# Altium integrated library ali_drv_parts.IntLib: 21 symbols
Pins are listed as number, name and electrical type; pins without a type are passive.

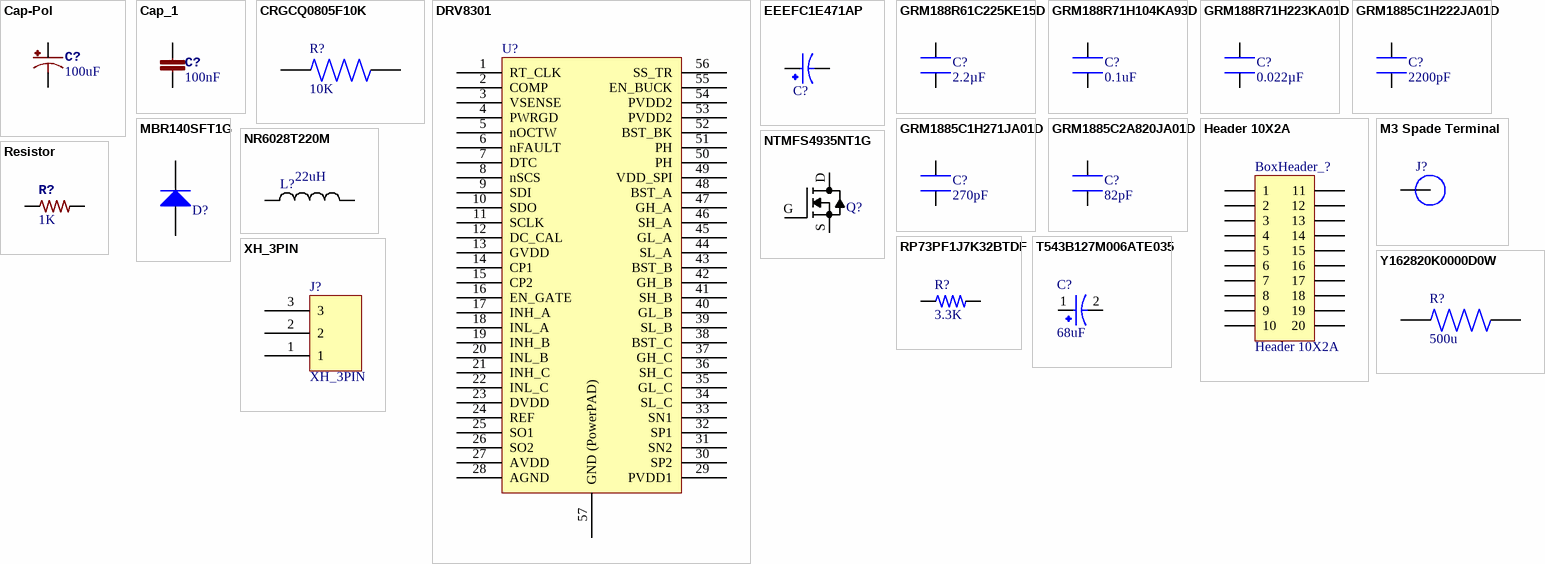
[diagram p0: symbols Cap-Pol to Y162820K0000D0W]

## Cap-Pol
designator C?  value 100uF  (hidden comment: Cap-Pol)
footprint _CPOL-RADIAL-2MM-4MM
footprint _CPOL-RADIAL-2.5MM-5MM
footprint _CPOL-RADIAL-2.5MM-6.5MM
footprint _CPOL-RADIAL-5MM-10MM
footprint _CPOL-RADIAL-5MM-13MM
footprint _CPOL-RADIAL-8MM-17MM
footprint _CPOL-RADIAL-7.5MM-15MM
footprint _CPOL_SMD-4.5MM
footprint _CPOL_SMD-6.8MM
footprint _CPOL_SMD-8.3MM
footprint _EIA3216
footprint _EIA3528
footprint _EIA6032
footprint _EIA7343
pins: +, -

## Cap_1
designator C?, comment value 100nF  (hidden comment: Cap)
footprint _0402
footprint _0603
footprint _0805
footprint _1206
footprint _RAD-0.1
footprint _RAD-0.2
footprint _RAD-0.3
footprint _RAD-0.4
footprint _RAD-0.5
footprint _RAD-0.6
footprint _RAD-0.7 (22.60mm)
pins: 1, 2

## CRGCQ0805F10K
designator R?, comment Comment_1: 10K  (hidden comment: 3-2176341-7)
Fixed Resistor CRGCQ 0805 10K 1%; MP: CRGCQ0805F10K; MF: TE Connectivity; DigiKey-Purchase-URL: https://snapeda.com/shop?store=DigiKey&id=3188209; Arrow_Electronics-Purchase-URL: https://snapeda.com/shop?store=Arrow+Electronics&id=3188209; Availability: Unavailable; SnapEDA_Link: https://www.snapeda.com/parts/CRGCQ0805F10K/TE%20Connectivity/view-part/3188209/?ref=snap; Package: 2012 TE Connectivity; Price: None; Value: *
footprint RESC2012X65N
pins: 1, 2

## DRV8301
designator U?
MOTOR DRIVER, 3PH, 56HTSSOP
footprint TSSOP50P810X120_HS-57N (TSSOP, 56-Leads, Body 14.00x6.10mm, Pitch 0.50mm, Thermal Pad 6.35x3.61mm, IPC Medium Density)
pins: 1 RT_CLK, 2 COMP, 3 VSENSE, 4 PWRGD, 5 nOCTW, 6 nFAULT, 7 DTC, 8 nSCS, 9 SDI, 10 SDO, 11 SCLK, 12 DC_CAL, 13 GVDD, 14 CP1, 15 CP2, 16 EN_GATE, 17 INH_A, 18 INL_A, 19 INH_B, 20 INL_B, 21 INH_C, 22 INL_C, 23 DVDD, 24 REF, 25 SO1, 26 SO2, 27 AVDD, 28 AGND, 29 PVDD1, 30 SP2, 31 SN2, 32 SP1, 33 SN1, 34 SL_C, 35 GL_C, 36 SH_C, 37 GH_C, 38 BST_C, 39 SL_B, 40 GL_B, 41 SH_B, 42 GH_B, 43 BST_B, 44 SL_A, 45 GL_A, 46 SH_A, 47 GH_A, 48 BST_A, 49 VDD_SPI, 50 PH, 51 PH, 52 BST_BK, 53 PVDD2, 54 PVDD2, 55 EN_BUCK, 56 SS_TR, 57 GND (PowerPAD)

## EEEFC1E471AP
designator C?  (value not drawn)
470ÂµF 25V Aluminum Electrolytic Capacitors Radial, Can - SMD 1000 Hrs @ 105Â°C; MF: Panasonic; MP: EEE-FC1E471AP; Availability: In Stock; Check_prices: https://www.snapeda.com/parts/EEE-FC1E471AP/Panasonic/view-part/2305395/?ref=eda; Package: RADIAL-2 Panasonic; Price: None; SnapEDA_Link: https://www.snapeda.com/parts/EEE-FC1E471AP/Panasonic/view-part/2305395/?ref=snap; Value: *
footprint CAP_EEEFC1E471AP
pins: 1, 2

## GRM188R61C225KE15D
designator C?, comment 2.2µF
CAP CER 2.2UF 16V X5R 0603; Manufacturer: Murata Electronics North America; Manufacturer Part Number: GRM188R61C225KE15D; Tolerance: ±10%; Supplier 1: Digi-Key; Supplier Part Number 1: 490-3296-1-ND; RoHS: RoHS Compliant; Category: Capacitors; Stock 1: 1255740; Pricing 1: 1=0.12, 10=0.08, 50=0.046, 100=0.038, 250=0.032, 500=0.0268, 1000=0.022 (USD); Packaging: Cut Tape (CT); Capacitance: 2.2µF; Voltage - Rated: 16V; Temperature Coefficient: X5R; Mounting Type: Surface Mount, MLCC; Operating Temperature: -55°C ~ 85°C; Applications: General Purpose; Ratings: -; Package / Case: 0603 (1608 Metric); Size / Dimension: 0.063" L x 0.031" W (1.60mm x 0.80mm); Height - Seated (Max): -; Thickness (Max): 0.035" (0.90mm); Lead Spacing: -; Features: -; Lead Style: -; ComponentLink1URL: http://www.murata.com/~/media/webrenewal/support/library/catalog/products/capacitor/mlcc/c02e.pdf; ComponentLink1Description: http://www.murata.com/~/media/webrenewal/support/library/catalog/products/capacitor/mlcc/c02e.pdf
footprint CAPC1608X09L (Chip Capacitor, 2-Leads, Body 1.60x0.80mm, IPC High Density)
pins: 1, 2

## GRM188R71H104KA93D
designator C?, comment 0.1uF
CAP CER 0.1UF 50V X7R 0603; Manufacturer: Murata Electronics North America; Manufacturer Part Number: GRM188R71H104KA93D; Tolerance: ±10%; Supplier 1: Digi-Key; Supplier Part Number 1: 490-1519-2-ND; RoHS: RoHS Compliant; Category: Capacitors; Pricing 1: 4000=0.01822, 8000=0.01663, 12000=0.01584 (USD); Packaging: Tape & Reel (TR); Capacitance: 0.1uF; Voltage - Rated: 50V; Temperature Coefficient: X7R; Mounting Type: Surface Mount, MLCC; Operating Temperature: -55°C ~ 125°C; Applications: General Purpose; Ratings: -; Package / Case: 0603 (1608 Metric); Size / Dimension: 0.063" L x 0.032" W (1.60mm x 0.80mm); Height - Seated (Max): -; Thickness (Max): 0.035" (0.90mm); Lead Spacing: -; Features: -; Lead Style: -; ComponentLink1URL: http://www.murata.com/~/media/webrenewal/support/library/catalog/products/capacitor/mlcc/c02e.ashx?la=en-us; ComponentLink1Description: http://www.murata.com/~/media/webrenewal/support/library/catalog/products/capacitor/mlcc/c02e.ashx?la=en-us; Stock: 19812000; Part Status: Active; Supplier 2: Digi-Key; Supplier Part Number 2: 490-1519-1-ND; Pricing 2: 1=0.12, 10=0.084, 100=0.0396, 500=0.02778, 1000=0.023 (USD)
footprint CAPC1608X09L (Chip Capacitor, 2-Leads, Body 1.60x0.80mm, IPC High Density)
pins: 1, 2

## GRM188R71H223KA01D
designator C?, comment 0.022µF
CAP CER 0.022UF 50V X7R 0603; Manufacturer: Murata Electronics North America; Manufacturer Part Number: GRM188R71H223KA01D; Tolerance: ±10%; Supplier 1: Digi-Key; Supplier Part Number 1: 490-1517-2-ND; RoHS: RoHS Compliant; Category: Capacitors; Pricing 1: 4000=0.01518, 8000=0.01386, 12000=0.0132 (USD); Packaging: Tape & Reel (TR); Capacitance: 0.022µF; Voltage - Rated: 50V; Temperature Coefficient: X7R; Mounting Type: Surface Mount, MLCC; Operating Temperature: -55°C ~ 125°C; Applications: General Purpose; Ratings: -; Package / Case: 0603 (1608 Metric); Size / Dimension: 0.063" L x 0.032" W (1.60mm x 0.80mm); Height - Seated (Max): -; Thickness (Max): 0.035" (0.90mm); Lead Spacing: -; Features: -; Lead Style: -; ComponentLink1URL: http://search.murata.co.jp/Ceramy/image/img/A01X/G101/ENG/GRM188R71H223KA01-01.pdf; ComponentLink1Description: http://search.murata.co.jp/Ceramy/image/img/A01X/G101/ENG/GRM188R71H223KA01-01.pdf; Stock: 608000; Part Status: Active; Supplier 2: Digi-Key; Supplier Part Number 2: 490-1517-1-ND; Pricing 2: 1=0.11, 10=0.083, 100=0.0372, 500=0.02656, 1000=0.02087 (USD)
footprint CAPC1608X09L (Chip Capacitor, 2-Leads, Body 1.60x0.80mm, IPC High Density)
pins: 1, 2

## GRM1885C1H222JA01D
designator C?, comment 2200pF
CAP CER 2200PF 50V NP0 0603; Manufacturer: Murata Electronics North America; Tolerance: ±5%; Temperature Coefficient: C0G, NP0; Supplier 1: Digi-Key; Supplier Part Number 1: 490-1459-1-ND; RoHS: RoHS Compliant; Category: Capacitors; Stock 1: 850589; Pricing 1: 1=0.11, 10=0.08, 25=0.058, 50=0.0434, 100=0.0355, 250=0.02972, 500=0.02536, 1000=0.01992 (USD); Packaging: Cut Tape (CT); Capacitance: 2200pF; Voltage - Rated: 50V; Mounting Type: Surface Mount, MLCC; Operating Temperature: -55°C ~ 125°C; Applications: General Purpose; Ratings: -; Package / Case: 0603 (1608 Metric); Size / Dimension: 0.063" L x 0.031" W (1.60mm x 0.80mm); Height - Seated (Max): -; Thickness (Max): 0.035" (0.90mm); Lead Spacing: -; Features: -; Lead Style: -; ComponentLink1URL: http://www.murata.com/~/media/webrenewal/support/library/catalog/products/capacitor/mlcc/c02e.ashx; ComponentLink1Description: http://www.murata.com/~/media/webrenewal/support/library/catalog/products/capacitor/mlcc/c02e.ashx; Part Status: Active
footprint CAPC1608X09L (Chip Capacitor, 2-Leads, Body 1.60x0.80mm, IPC High Density)
pins: 1, 2

## GRM1885C1H271JA01D
designator C?, comment 270pF
CAP CER 270PF 50V NP0 0603; Manufacturer: Murata Electronics North America; Manufacturer Part Number: GRM1885C1H271JA01D; Tolerance: ±5%; Temperature Coefficient: C0G, NP0; Supplier 1: Digi-Key; Supplier Part Number 1: 490-1437-1-ND; RoHS: RoHS Compliant; Category: Capacitors; Stock 1: 46048; Pricing 1: 1=0.1, 10=0.048, 50=0.026, 100=0.022, 250=0.018, 500=0.0154, 1000=0.012 (USD); Packaging: Cut Tape (CT); Capacitance: 270pF; Voltage - Rated: 50V; Mounting Type: Surface Mount, MLCC; Operating Temperature: -55°C ~ 125°C; Applications: General Purpose; Ratings: -; Package / Case: 0603 (1608 Metric); Size / Dimension: 0.063" L x 0.031" W (1.60mm x 0.80mm); Height - Seated (Max): -; Thickness (Max): 0.035" (0.90mm); Lead Spacing: -; Features: -; Lead Style: -; ComponentLink1URL: http://www.murata.com/~/media/webrenewal/support/library/catalog/products/capacitor/mlcc/c02e.pdf; ComponentLink1Description: http://www.murata.com/~/media/webrenewal/support/library/catalog/products/capacitor/mlcc/c02e.pdf
footprint CAPC1608X09L (Chip Capacitor, 2-Leads, Body 1.60x0.80mm, IPC High Density)
pins: 1, 2

## GRM1885C2A820JA01D
designator C?, comment 82pF
CAP CER 82PF 100V NP0 0603; Manufacturer: Murata Electronics North America; Manufacturer Part Number: GRM1885C2A820JA01D; Tolerance: ±5%; Temperature Coefficient: C0G, NP0; Supplier 1: Digi-Key; Supplier Part Number 1: 490-1349-1-ND; RoHS: RoHS Compliant; Category: Capacitors; Stock 1: 58970; Pricing 1: 1=0.1, 10=0.052, 50=0.028, 100=0.0237, 250=0.01936, 500=0.01656, 1000=0.0129 (USD); Packaging: Cut Tape (CT); Capacitance: 82pF; Voltage - Rated: 100V; Mounting Type: Surface Mount, MLCC; Operating Temperature: -55°C ~ 125°C; Applications: General Purpose; Ratings: -; Package / Case: 0603 (1608 Metric); Size / Dimension: 0.063" L x 0.031" W (1.60mm x 0.80mm); Height - Seated (Max): -; Thickness (Max): 0.035" (0.90mm); Lead Spacing: -; Features: -; Lead Style: -; ComponentLink1URL: http://www.murata.com/~/media/webrenewal/support/library/catalog/products/capacitor/mlcc/c02e.pdf; ComponentLink1Description: http://www.murata.com/~/media/webrenewal/support/library/catalog/products/capacitor/mlcc/c02e.pdf
footprint CAPC1608X09L (Chip Capacitor, 2-Leads, Body 1.60x0.80mm, IPC High Density)
pins: 1, 2

## Header 10X2A
designator BoxHeader_?
Header, 10-Pin, Dual row; LatestRevisionDate: 17-Jul-2002; LatestRevisionNote: Re-released for DXP Platform.; Publisher: Altium Limited
footprint PCBComponent_1
pins: 1, 2, 3, 4, 5, 6, 7, 8, 9, 10, 11, 12, 13, 14, 15, 16, 17, 18, 19, 20

## M3 Spade Terminal
designator J?
M3 Spade Terminal
footprint M3 Spade Hole
pins: 1

## MBR140SFT1G
designator D?
Rectifier Diode, Single, 40 V, 1 A, SOD-123FL, 2, 550 mV
footprint Bourns DO214AC SMA (Molded Diode, 2-Leads, Body 4.30x2.60mm, IPC Medium Density)
pins: A, K

## NR6028T220M
designator L?, comment 22uH
INDUCTOR 22UH 1.4A 175.5 MOHM; Value: 22uH
footprint INDC6060X28N (Chip Inductor, 2-Leads, Body 6.00x6.00mm, IPC Medium Density)
pins: 1, 2

## NTMFS4935NT1G
designator Q?, comment FILL_FOOTPRINT  (value not drawn)
MOSFET N-CH 30V 13A SO8FL; Manufacturer: ON Semiconductor; Manufacturer Part Number: NTMFS4935NT1G; FET Type: N-Channel; Current - Continuous Drain (Id) @ 25°C: 13A (Ta), 93A (Tc); Drive Voltage (Max Rds On,  Min Rds On): 4.5V, 10V; Vgs(th) (Max) @ Id: 2.2V @ 250µA; Gate Charge (Qg) (Max) @ Vgs: 49.4nC @ 10V; Input Capacitance (Ciss) (Max) @ Vds: 4850pF @ 15V; Vgs (Max): ±20V; Power Dissipation (Max): 930mW (Ta), 48W (Tc); Rds On (Max) @ Id, Vgs: 3.2 mOhm @ 30A, 10V; Supplier 1: Digi-Key; Supplier Part Number 1: NTMFS4935NT1GOSCT-ND; RoHS: RoHS Compliant; Category: Discrete Semiconductor Products; Stock 1: 932; Pricing 1: 1=0.61, 10=0.541, 100=0.4145, 500=0.3277 (USD); Packaging: Cut Tape (CT); Part Status: Active; Technology: MOSFET (Metal Oxide); Drain to Source Voltage (Vdss): 30V; FET Feature: -; Operating Temperature: -55°C ~ 150°C (TJ); Mounting Type: Surface Mount; Supplier Device Package: 5-DFN (5x6) (8-SOFL); Package / Case: 8-PowerTDFN, 5 Leads; ComponentLink1URL: http://www.onsemi.com/pub_link/Collateral/NTMFS4935N-D.PDF; ComponentLink1Description: http://www.onsemi.com/pub_link/Collateral/NTMFS4935N-D.PDF
footprint TO229P994X240-3N
pins: D, G, S

## Resistor
designator R?  value 1K  (hidden comment: Resistor)
footprint _0402
footprint _0603
footprint _0805
footprint _1206
footprint _1210
footprint _2010
footprint _AXIAL-0.1
footprint _AXIAL-0.3
footprint _AXIAL-0.4
footprint _AXIAL-0.5
footprint _AXIAL-0.6
footprint _AXIAL-0.7
pins: 1, 2

## RP73PF1J7K32BTDF
designator R?, comment 3.3K
MF: TE Connectivity; MP: RP73PF1J7K32BTDF; Value: *; Package: 0603 TE Connectivity / AMP; Purchase-URL: https://pricing.snapeda.com/search/part/RP73PF1J7K32BTDF/?ref=eda; Price: None; SnapEDA_Link: https://www.snapeda.com/parts/RP73PF1J7K32BTDF/TE%20Connectivity%20Passive%20Product/view-part/1061980/?ref=snap; Availability: Warning
footprint RESC1608X50N
pins: 1, 2

## T543B127M006ATE035
designator C?, comment 68uF
CAP TANT POLY 120UF 6.3V 3528; MF: KEMET; MP: T543B127M006ATE035; Package: 1411 KEMET; SnapEDA_Link: https://www.snapeda.com/parts/T543B127M006ATE035/KEMET/view-part/1738142/?ref=snap; Price: None; Check_prices: https://www.snapeda.com/parts/T543B127M006ATE035/KEMET/view-part/1738142/?ref=eda; Value: *; Availability: In Stock
footprint CAPPM3528X210N
pins: 1, 2

## XH_3PIN
designator J?
footprint XH_3PIN
pins: 1, 2, 3

## Y162820K0000D0W
designator R?, comment 500u
MP: Y162820K0000D0W; Package: None; Price: None; Value: *; Availability: Unavailable
footprint RESC6332X64N
pins: 1, 2